# Altium schematic symbol library Schlib2.SchLib: 12 symbols
Pins are listed as number, name and electrical type; pins without a type are passive.

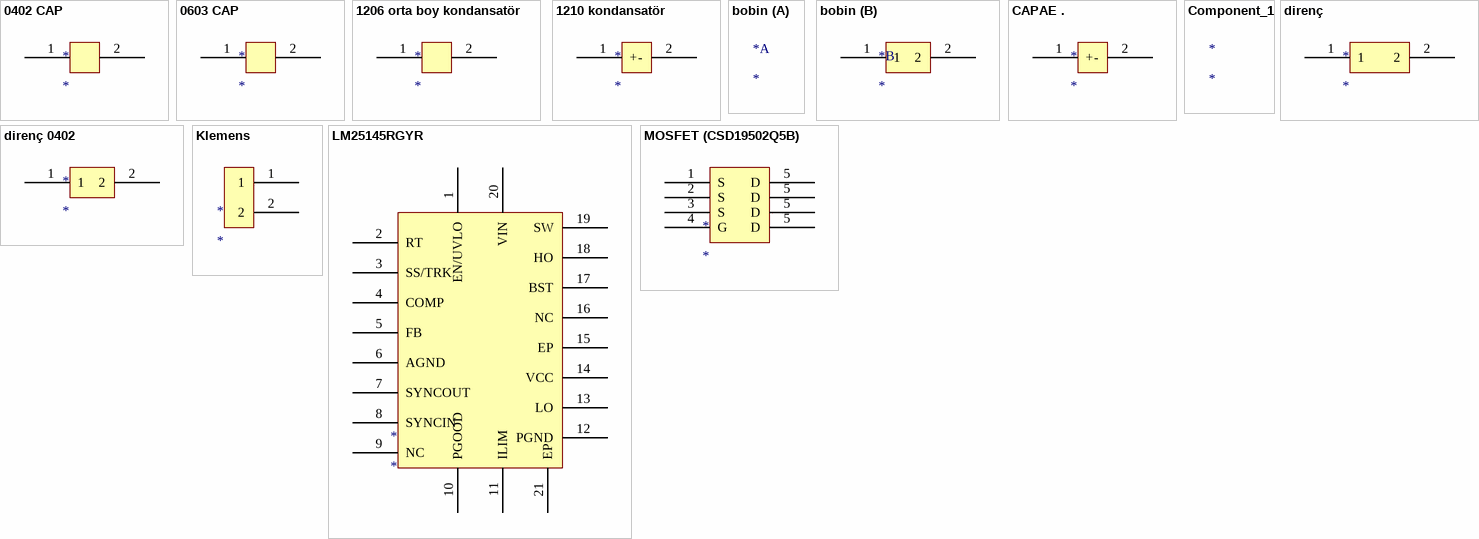
[diagram p0: symbols 0402 CAP to MOSFET (CSD19502Q5B)]

## 0402 CAP
designator *
footprint RESC1005X06N (Chip Resistor, 2-Leads, Body 1,00x0,50mm, IPC Medium Density)
pins: 1, 2

## 0603 CAP
designator *
footprint RESC1608X06N (Chip Resistor, 2-Leads, Body 1,60x0,85mm, IPC Medium Density)
pins: 1, 2

## 1206 orta boy kondansatör
designator *
footprint 1206 (Orta Boy Seramik) (Chip Capacitor, 2-Leads, Body 3,20x1,60mm, IPC Medium Density)
pins: 1, 2

## 1210 kondansatör
designator *
footprint 1210 (En Büyük Seramik) (Chip Capacitor, 2-Leads, Body 3,20x2,50mm, IPC Medium Density)
pins: 1 +, 2 -

## bobin
designator *
footprint INDM150150X100N (Molded Inductor, 2-Leads, Body 15,00x15,00mm, IPC Medium Density)
part B pins: 1, 2

## CAPAE .
designator *
footprint CAPAE110102X125M (Aluminum Electrolytic Capacitor, Body 10,25x10,25x12,50mm, IPC Low Density)
pins: 1 +, 2 -

## Component_1
designator *

## direnç
designator *
footprint RESC1608X06N (Chip Resistor, 2-Leads, Body 1,60x0,85mm, IPC Medium Density)
pins: 1, 2

## direnç 0402
designator *
footprint RESC1005X06N (Chip Resistor, 2-Leads, Body 1,00x0,50mm, IPC Medium Density)
pins: 1, 2

## Klemens
designator *
footprint Klemens
pins: 1, 2

## LM25145RGYR
designator *
footprint PQFN50P350X450X100_HS-21N (PQFN, 20-Leads, Body 3,50x4,50mm, Pitch 0,50mm, Thermal Pad 2,10x3,10mm, IPC Medium Density)
pins: 1 EN/UVLO, 2 RT, 3 SS/TRK, 4 COMP, 5 FB, 6 AGND, 7 SYNCOUT, 8 SYNCIN, 9 NC, 10 PGOOD, 11 ILIM, 12 PGND, 13 LO, 14 VCC, 15 EP, 16 NC, 17 BST, 18 HO, 19 SW, 20 VIN, 21 EP

## MOSFET (CSD19502Q5B)
designator *
footprint MOSFET+ (SON, 8-Leads, Body 6,00x5,00mm, Pitch 1,27mm, Thermal Pad 4,80x3,09mm, IPC Medium Density)
pins: 1 S, 2 S, 3 S, 4 G, 5 D, 5 D, 5 D, 5 D